# Altium schematic symbol library CN_SOCKET.SchLib: 1 symbol
Pins are listed as number, name and electrical type; pins without a type are passive.

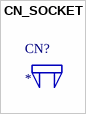
[diagram p0: symbol CN_SOCKET]

## CN_SOCKET
designator CN?